# Altium footprint library 662306235922.PcbLib: 1 footprints
Each footprint in its own frame and in the unit in brackets; x right, y up, seen from the top. Pads: shape width x height; smd on the part's side, far side on the other; paste and mask are expansions set on the pad; w line width, h text height; cw(c..) or ccw(c..) is an arc to the next point about the centre after c.
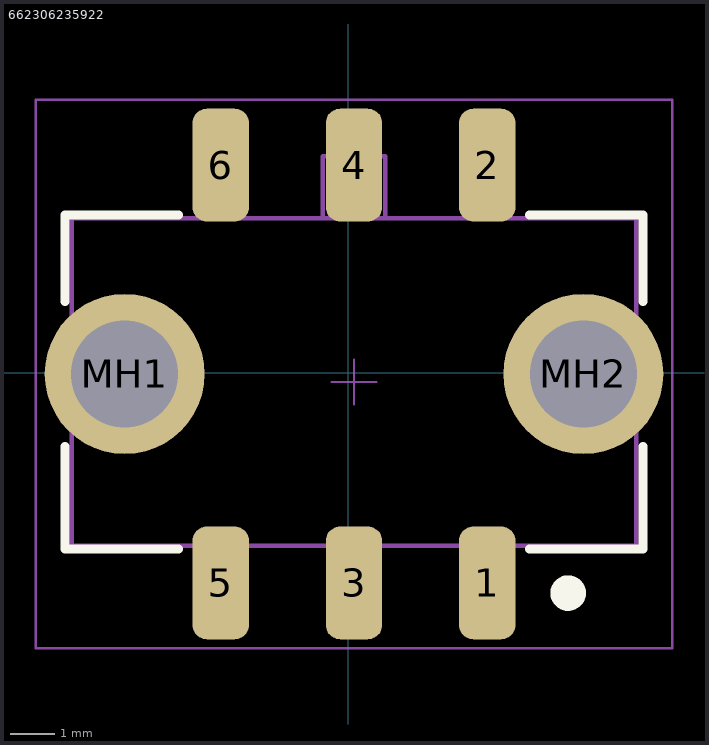
[diagram p0: the footprint, top view; thin cyan lines are the x and y axes]

## 662306235922 [mm]
pads (8):
  rrect50% 1.27x2.54 smd: 1(3.134,-4.723) 2(3.134,4.677) 3(0.134,-4.723) 4(0.134,4.677) 5(-2.866,-4.723) 6(-2.866,4.677)
  round 3.6 hole 2.41: MH1(-5.026,-0.023) MH2(5.294,-0.023)
Top Overlay:
  circle w0.4: c4.953,-4.953 r0.2
  lines w0.2: -6.366,-1.658 -6.366,-3.958 -3.816,-3.958 ; -6.366,1.612 -6.366,3.552 -3.816,3.552 ; 4.084,-3.958 6.634,-3.958 6.634,-1.658 ; 4.084,3.552 6.634,3.552 6.634,1.612
Top Assembly:
  lines w0.05: -0.366,-0.203 0.634,-0.203 ; 0.134,-0.703 0.134,0.297 ; -7.026,-6.193 7.294,-6.193 7.294,6.147 -7.026,6.147 -7.026,-6.193
Top 3D Body:
  lines w0.1: -0.566,3.477 -0.566,4.877 0.834,4.877 0.834,3.477 ; -6.216,-3.883 -6.216,3.477 6.484,3.477 6.484,-3.883 -6.216,-3.883
Top Courtyard:
  lines w0.05: -0.366,-0.203 0.634,-0.203 ; 0.134,-0.703 0.134,0.297 ; -7.026,-6.193 7.294,-6.193 7.294,6.147 -7.026,6.147 -7.026,-6.193
3D body "662306235922.stp": height 11.42, standoff -3.08, extent -6.216,-5.653 6.484,5.747